# Altium integrated library LD035C153KAB2A_500.IntLib: 1 symbol
Pins are listed as number, name and electrical type; pins without a type are passive.

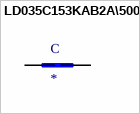
[diagram p0: symbol LD035C153KAB2A\500]

## LD035C153KAB2A\500
designator C
Ceramic Capacitor; MF: AVX; MP: LD035C153KAB2A_0; SnapEDA_Link: https://www.snapeda.com/parts/LD035C153KAB2A%5C500/AVX/view-part/2023938/?ref=snap; Price: None; Package: 0603 AVX; Availability: Unavailable; Value: *
footprint CAPC1608X90
pins: 1, 2